# Altium schematic symbol library TMR6-2415.SchLib: 1 symbol
Pins are listed as number, name and electrical type; pins without a type are passive.

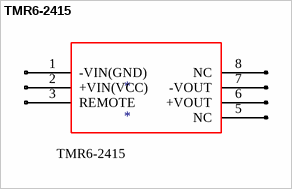
[diagram p0: symbol TMR6-2415]

## TMR6-2415
designator *
24v dc dc converter 18-36v 250mA; Vnom: 24V DC; created by: vasili; verified by: someone; Supplier 1: Digi-Key; Supplier Part Number 1: 1951-1797-ND; max current: 250mA
pins: 1 -VIN(GND), 2 +VIN(VCC), 3 REMOTE, 5 NC, 6 +VOUT, 7 -VOUT, 8 NC